# EAGLE library part GADGETEER_TYCO_1_6605834_1 (library Gadgeteer)
Telecom & Ethernet Connectors 1X1 7DN2 7D15 G/G MAG45 Mag45* Modular Jack With Integrated Magnetics. Left LED Color (Position #1) = Green - 250 ohm resistor. Right LED Color (Position #2) = Green - 250 ohm resistor.
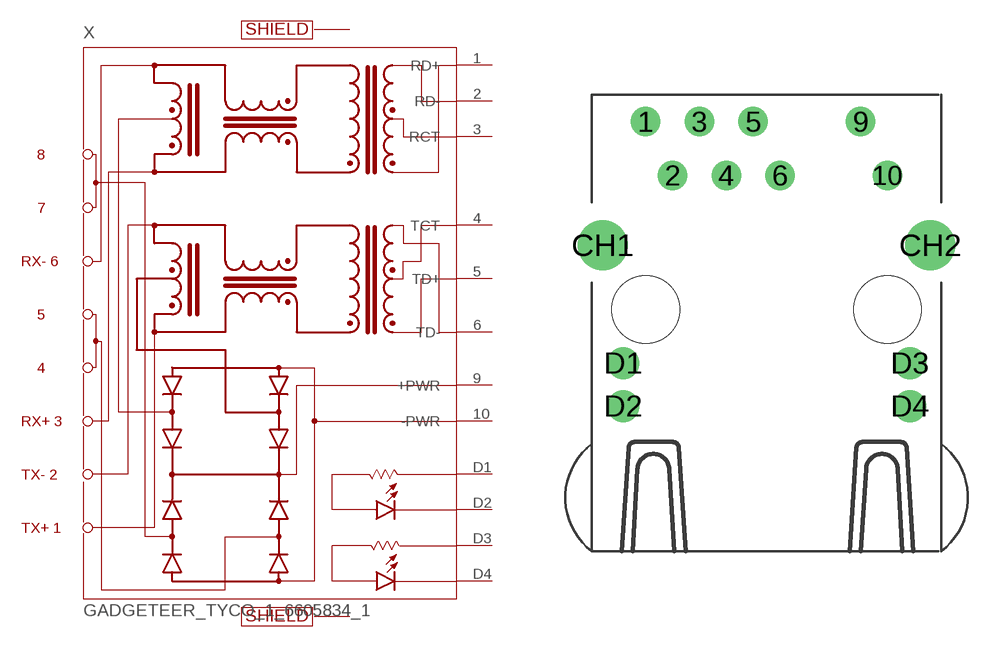
[diagram p3: symbol with the pads of GADGETEER_MAG_RJ45; footprint GADGETEER_MAG_RJ45]

Designator prefix X

## GADGETEER_TYCO_1_6605834_1C, GADGETEER_TYCO_1_6605834_121C (OC_FARNELL: unknown; OC_NEWARK: unknown)  [GADGETEER_MAG_RJ45]
1  RD+
2  RD-
3  RCT
4  TCT
5  TD+
6  TD-
9  +PWR
10  -PWR
CH1  CH1
CH2  CH2
D1  D1
D2  D2
D3  D3
D4  D4

## Footprint GADGETEER_MAG_RJ45 (pad centres in mm)
PULSEJACK (TM) 1x1 Tab-UP RJ45 10/100 Base-TX RJ45 1x1 Tab-UP with LEDs 8-pin (J1 series) and 6-pin (JP series) integrated magnetics connector, designed to support applications, such as ADSL modems, LAN-on-Motherboard, and Hub and Switches. Source: www.pulseeng.com .. PulseJack-J402.pdf
drill 0.889 pad 1.27: 1 0,8.89; 2 1.27,6.35; 3 2.54,8.89; 4 3.81,6.35; 5 5.08,8.89; 6 6.35,6.35; 9 10.16,8.89; 10 11.43,6.35
drill 1.575: CH1 -2.032,3.048; CH2 13.462,3.048
drill 1.016: D1 -1.067,-2.54; D2 -1.067,-4.572; D3 12.497,-2.54; D4 12.497,-4.572
hole 3.2 at 0,0
hole 3.2 at 11.43,0